# Altium footprint library ST_NUCLEO-F401RE.PcbLib: 1 footprints
Each footprint in its own frame and in the unit in brackets; x right, y up, seen from the top. Pads: shape width x height; smd on the part's side, far side on the other; paste and mask are expansions set on the pad; w line width, h text height; cw(c..) or ccw(c..) is an arc to the next point about the centre after c.
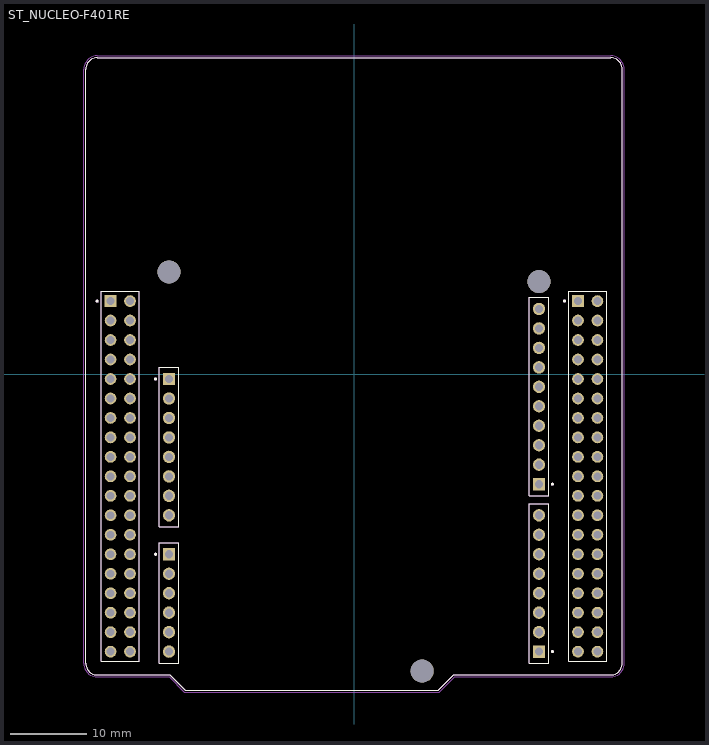
[diagram p0: the footprint, top view; thin cyan lines are the x and y axes]

## ST_NUCLEO-F401RE [mm]
pads (111):
  rect 1.605x1.605 hole 1.07: CN5_1(24.13,-14.37) CN6_1(-24.13,-0.65) CN8_1(-24.13,-23.51) CN9_1(24.13,-36.21)
  round 1.605 hole 1.07: CN5_2(24.13,-11.83) CN5_3(24.13,-9.29) CN5_4(24.13,-6.75) CN5_5(24.13,-4.21) CN5_6(24.13,-1.67) CN5_7(24.13,0.87) CN5_8(24.13,3.41) CN5_9(24.13,5.95) CN5_10(24.13,8.49) CN6_2(-24.13,-3.19) CN6_3(-24.13,-5.73) CN6_4(-24.13,-8.27) CN6_5(-24.13,-10.81) CN6_6(-24.13,-13.35) CN6_7(-24.13,-15.89) CN6_8(-24.13,-18.43) CN8_2(-24.13,-26.05) CN8_3(-24.13,-28.59) CN8_4(-24.13,-31.13) CN8_5(-24.13,-33.67) CN8_6(-24.13,-36.21) CN9_2(24.13,-33.67) CN9_3(24.13,-31.13) CN9_4(24.13,-28.59) CN9_5(24.13,-26.05) CN9_6(24.13,-23.51) CN9_7(24.13,-20.97) CN9_8(24.13,-18.43)
  rect 1.53x1.53 hole 1.02: CN7_1(-31.75,9.51) CN10_1(29.21,9.51)
  round 1.53 hole 1.02: CN7_2(-29.21,9.51) CN7_3(-31.75,6.97) CN7_4(-29.21,6.97) CN7_5(-31.75,4.43) CN7_6(-29.21,4.43) CN7_7(-31.75,1.89) CN7_8(-29.21,1.89) CN7_9(-31.75,-0.65) CN7_10(-29.21,-0.65) CN7_11(-31.75,-3.19) CN7_12(-29.21,-3.19) CN7_13(-31.75,-5.73) CN7_14(-29.21,-5.73) CN7_15(-31.75,-8.27) CN7_16(-29.21,-8.27) CN7_17(-31.75,-10.81) CN7_18(-29.21,-10.81) CN7_19(-31.75,-13.35) CN7_20(-29.21,-13.35) CN7_21(-31.75,-15.89) CN7_22(-29.21,-15.89) CN7_23(-31.75,-18.43) CN7_24(-29.21,-18.43) CN7_25(-31.75,-20.97) CN7_26(-29.21,-20.97) CN7_27(-31.75,-23.51) CN7_28(-29.21,-23.51) CN7_29(-31.75,-26.05) CN7_30(-29.21,-26.05) CN7_31(-31.75,-28.59) CN7_32(-29.21,-28.59) CN7_33(-31.75,-31.13) CN7_34(-29.21,-31.13) CN7_35(-31.75,-33.67) CN7_36(-29.21,-33.67) CN7_37(-31.75,-36.21) CN7_38(-29.21,-36.21) CN10_2(31.75,9.51) CN10_3(29.21,6.97) CN10_4(31.75,6.97) CN10_5(29.21,4.43) CN10_6(31.75,4.43) CN10_7(29.21,1.89) CN10_8(31.75,1.89) CN10_9(29.21,-0.65) CN10_10(31.75,-0.65) CN10_11(29.21,-3.19) CN10_12(31.75,-3.19) CN10_13(29.21,-5.73) CN10_14(31.75,-5.73) CN10_15(29.21,-8.27) CN10_16(31.75,-8.27) CN10_17(29.21,-10.81) CN10_18(31.75,-10.81) CN10_19(29.21,-13.35) CN10_20(31.75,-13.35) CN10_21(29.21,-15.89) CN10_22(31.75,-15.89) CN10_23(29.21,-18.43) CN10_24(31.75,-18.43) CN10_25(29.21,-20.97) CN10_26(31.75,-20.97) CN10_27(29.21,-23.51) CN10_28(31.75,-23.51) CN10_29(29.21,-26.05) CN10_30(31.75,-26.05) CN10_31(29.21,-28.59) CN10_32(31.75,-28.59) CN10_33(29.21,-31.13) CN10_34(31.75,-31.13) CN10_35(29.21,-33.67) CN10_36(31.75,-33.67) CN10_37(29.21,-36.21) CN10_38(31.75,-36.21)
  round 3 hole 3 unplated: ""(-24.13,13.32) ""(8.89,-38.75) ""(24.13,12.05)
Top Overlay:
  circle w0.2: c-25.88,-0.65 r0.1
  circle w0.2: c25.88,-36.21 r0.1
  circle w0.2: c-25.88,-23.51 r0.1
  circle w0.2: c25.88,-14.37 r0.1
  circle w0.2: c-33.5,9.51 r0.1
  circle w0.2: c27.46,9.51 r0.1
  lines w0.127: -35,-37.75 ccw(c-33.5,-37.75) -33.5,-39.25 -24,-39.25 -22,-41.25 11,-41.25 13,-39.25 33.5,-39.25 ccw(c33.5,-37.75) 35,-37.75 35,39.75 ccw(c33.5,39.75) 33.5,41.25 -33.5,41.25 ccw(c-33.5,39.75) -35,39.75 -35,-37.75 ; -32.98,-37.48 -32.98,10.78 -27.98,10.78 -27.98,-37.48 -32.98,-37.48 ; -25.38,-37.73 -25.38,-21.99 -22.88,-21.99 -22.88,-37.73 -25.38,-37.73 ; -25.38,-19.95 -25.38,0.87 -22.88,0.87 -22.88,-19.95 -25.38,-19.95 ; 22.88,-37.73 22.88,-16.91 25.38,-16.91 25.38,-37.73 22.88,-37.73 ; 22.88,-15.89 22.88,10.01 25.38,10.01 25.38,-15.89 22.88,-15.89 ; 27.98,-37.48 27.98,10.78 32.98,10.78 32.98,-37.48 27.98,-37.48
Mechanical 13:
  circle w0.2: c-25.88,-0.65 r0.1
  circle w0.2: c25.88,-36.21 r0.1
  circle w0.2: c-25.88,-23.51 r0.1
  circle w0.2: c25.88,-14.37 r0.1
  circle w0.2: c-33.5,9.51 r0.1
  circle w0.2: c27.46,9.51 r0.1
  lines w0.127: -35,-37.75 ccw(c-33.5,-37.75) -33.5,-39.25 -24,-39.25 -22,-41.25 11,-41.25 13,-39.25 33.5,-39.25 ccw(c33.5,-37.75) 35,-37.75 35,39.75 ccw(c33.5,39.75) 33.5,41.25 -33.5,41.25 ccw(c-33.5,39.75) -35,39.75 -35,-37.75 ; -32.98,-37.48 -32.98,10.78 -27.98,10.78 -27.98,-37.48 -32.98,-37.48 ; -25.38,-37.73 -25.38,-21.99 -22.88,-21.99 -22.88,-37.73 -25.38,-37.73 ; -25.38,-19.95 -25.38,0.87 -22.88,0.87 -22.88,-19.95 -25.38,-19.95 ; 22.88,-37.73 22.88,-16.91 25.38,-16.91 25.38,-37.73 22.88,-37.73 ; 22.88,-15.89 22.88,10.01 25.38,10.01 25.38,-15.89 22.88,-15.89 ; 27.98,-37.48 27.98,10.78 32.98,10.78 32.98,-37.48 27.98,-37.48
Mechanical 15:
  lines w0.05: -35.25,-37.75 ccw(c-33.5,-37.75) -33.5,-39.5 -24.125,-39.5 -22.125,-41.5 11.125,-41.5 13.125,-39.5 33.5,-39.5 ccw(c33.5,-37.75) 35.25,-37.75 35.25,39.75 ccw(c33.5,39.75) 33.5,41.5 -33.5,41.5 ccw(c-33.5,39.75) -35.25,39.75 -35.25,-37.75